# Altium footprint library PCB - CONNECTOR - AMPHENOL M12A-04PMMR-SF7003.PcbLib: 1 footprints
Each footprint in its own frame and in the unit in brackets; x right, y up, seen from the top. Pads: shape width x height; smd on the part's side, far side on the other; paste and mask are expansions set on the pad; w line width, h text height; cw(c..) or ccw(c..) is an arc to the next point about the centre after c.
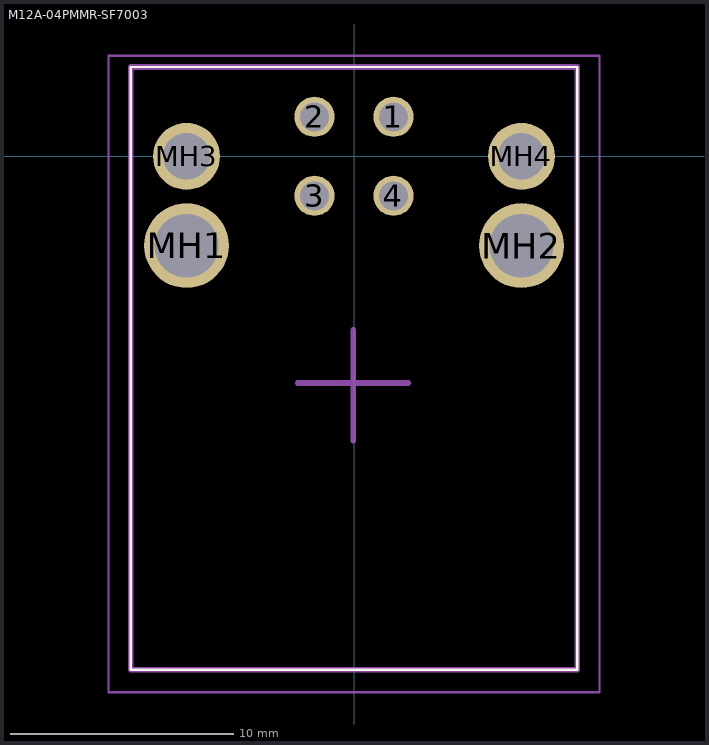
[diagram p0: the footprint, top view; thin cyan lines are the x and y axes]

## M12A-04PMMR-SF7003 [mm]
pads (8):
  round 1.8 hole 1.3: 1(1.768,1.768) 2(-1.768,1.768) 3(-1.768,-1.768) 4(1.768,-1.768)
  round 3.8 hole 2.85: MH1(-7.5,-4) MH2(7.5,-4)
  round 3 hole 2.1: MH3(-7.5,0) MH4(7.5,0)
Top Overlay:
  lines w0.1: -10,-23 10,-23 10,4 -10,4 -10,-23
Top Courtyard:
  lines w0.1: -11,-24 -11,4.5 11,4.5 11,-24 -11,-24
Top Designator:
  lines w0.254: -10,-23 -10,4 10,4 10,-23 -10,-23
  text ".Designator" at 13.5,-19.998 h1.5
Top Component Center:
  lines w0.254: -2.524,-10.15 2.429,-10.15 ; -0.03,-12.734 -0.03,-7.781
3D body "M12A-04PMMR-SF7003-STP.stp": height 16.5, standoff -2.7, extent -9.69,-22.58 9.49,3.3